# Altium footprint library PcbLib_Cute.PcbLib: 26 footprints (part 1 of 2)
Each footprint in its own frame and in the unit in brackets; x right, y up, seen from the top. Pads: shape width x height; smd on the part's side, far side on the other; paste and mask are expansions set on the pad; w line width, h text height; cw(c..) or ccw(c..) is an arc to the next point about the centre after c.
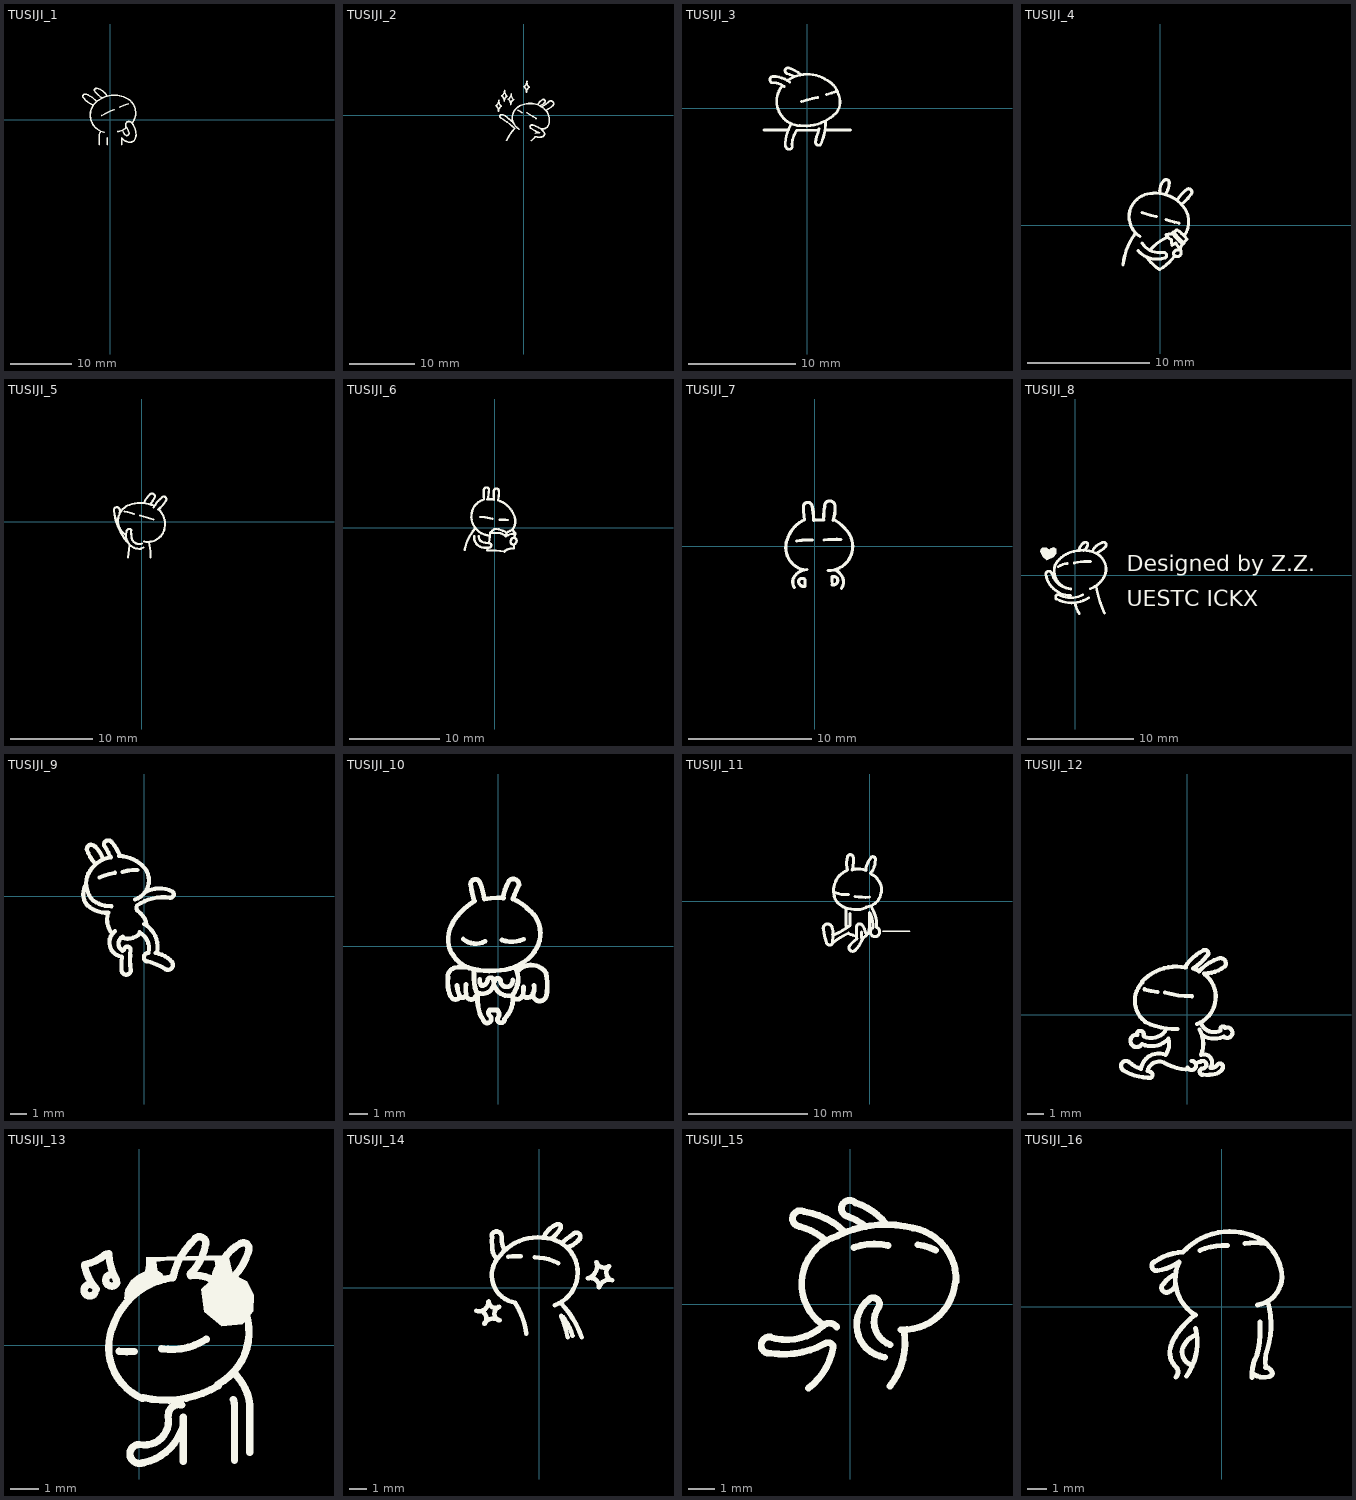
[diagram p0: the footprints below, top view; thin cyan lines are the x and y axes]

## TUSIJI_1 [mm] "TSJ"
Top Overlay:
  lines w0.254: -2.799,2.427 cw(c-1.397,5.867) -4.425,3.715 cw(c-4.064,3.835) -4.188,4.195 cw(c-4.064,3.327) -3.574,4.054 cw(c-5.588,0.025) -2.195,2.988 ; -2.159,5.105 ccw(c-2.286,4.851) -2.54,4.724 ccw(c1.651,7.899) -1.381,3.604 ; -2.149,5.149 cw(c-2.667,2.819) -0.543,3.907 ; -1.806,-4.011 -1.806,-2.642 cw(c-0.635,-2.642) -1.524,-1.88 ; -1.359,0.725 cw(c4.318,-8.611) 0.635,1.676 ; -1.013,-1.993 cw(c-0.381,0.787) -2.051,3.098 cw(c0.635,-0.356) 3.095,3.263 cw(c1.524,1.168) 3.556,-0.483 ; -0.508,-4.039 -0.508,-2.896 ; 1.27,-1.88 ccw(c1.016,0.406) 2.642,-1.22 ; 1.524,2.057 cw(c9.553,-15.913) 2.949,2.629 ; 1.905,-4.039 1.905,-2.896 ccw(c2.921,-2.388) 2.675,-3.496 ccw(c3.175,-2.515) 3.881,-3.361 ccw(c2.54,-2.388) 4.178,-2.136 ccw(c0.762,-2.515) 3.541,-0.493 ccw(c3.048,-0.864) 2.772,-0.312 ccw(c3.175,-0.864) 2.607,-1.243 ; 2.032,-1.753 ccw(c3.175,-1.499) 2.554,-2.492 ; 2.54,-2.515 ccw(c2.667,-2.134) 3.069,-2.134 ccw(c1.016,-2.515) 2.647,-1.212

## TUSIJI_2 [mm] "TSJ"
Top Overlay:
  lines w0.254: -3.825,2.286 cw(c-4.826,2.286) -4.271,1.453 cw(c-4.953,0.635) -3.888,0.635 cw(c-3.048,0.635) -3.449,1.372 cw(c-2.794,2.159) -3.81,2.286 ; -3.437,-0.5 -3.683,-0.254 -3.683,-0.086 -3.513,0.084 -3.179,0.084 cw(c-6.477,-5.588) -1.651,-1.143 ; -3.419,-0.5 cw(c-8.763,-9.652) -1.397,-2.032 ccw(c8.255,-9.906) -2.646,-3.878 ; -2.936,3.81 cw(c-3.937,3.81) -3.382,2.977 cw(c-4.064,2.159) -2.999,2.159 cw(c-2.159,2.159) -2.56,2.896 cw(c-1.905,3.683) -2.921,3.81 ; -1.92,3.302 cw(c-2.921,3.302) -2.366,2.469 cw(c-3.048,1.651) -1.983,1.651 cw(c-1.143,1.651) -1.544,2.388 cw(c-0.889,3.175) -1.905,3.302 ; -0.886,0.767 cw(c-5.334,-7.239) -0.254,0.381 ; -0.696,-2.146 cw(c0.254,-0.381) -1.09,1.106 cw(c0.762,-1.143) 0.387,1.746 cw(c1.016,-1.397) 3.596,0.504 ; 0.493,5.207 cw(c-0.508,5.207) 0.047,4.374 cw(c-0.635,3.556) 0.43,3.556 cw(c1.27,3.556) 0.869,4.293 cw(c1.524,5.08) 0.508,5.207 ; 0.497,0.361 cw(c-8.001,-14.986) 1.905,-0.508 ; 1.143,-3.937 ccw(c-1.016,-1.016) 1.795,-3.316 ccw(c2.413,-0.508) 2.662,-3.372 ccw(c2.667,-2.794) 3.234,-2.907 ; 1.397,-1.524 ccw(c1.27,-1.778) 1.143,-2.032 ccw(c3.175,0.508) 2.298,-2.624 ; 1.401,-1.51 cw(c0.508,-4.699) 2.286,-1.905 ; 1.778,-2.794 cw(c2.426,-4.737) 2.437,-2.689 ; 2.173,1.643 cw(c3.937,0.635) 2.928,2.399 cw(c3.048,2.159) 3.23,1.962 cw(c2.032,2.921) 2.667,1.524 ; 2.296,-1.889 cw(c0.635,-4.572) 3.105,-2.61 cw(c2.794,-2.921) 3.234,-2.921 ; 2.652,-2.098 ccw(c2.921,-1.143) 3.875,-1.415 ccw(c1.397,-0.762) 3.447,0.775 ccw(c2.159,3.81) 4.422,1.413 ccw(c4.191,1.778) 3.951,2.137 ; 2.921,1.397 ccw(c0.889,5.334) 3.954,2.135

## TUSIJI_3 [mm] "TSJ"
Top Overlay:
  lines w0.254: -4.039,-2.007 -1.829,-2.007 ; -3.28,2.38 cw(c-3.175,2.667) -3.2,2.972 ; -3.277,2.397 cw(c-3.226,0.66) -2.159,2.032 ; -3.2,2.977 cw(c-3.226,0.33) -1.626,2.438 ; -2.362,2.057 ccw(c-0.61,0.66) -2.194,-0.924 ; -2.184,-0.94 ccw(c-0.61,0.559) -0.739,-1.611 ; -2.058,-3.531 cw(c1.854,-3.48) -1.473,-1.422 ; -2.007,-3.556 ccw(c-1.702,-3.505) -1.406,-3.596 ; -1.915,3.255 cw(c-1.803,3.505) -1.702,3.759 ; -1.903,3.235 cw(c-2.718,0.102) -1.219,2.972 ; -1.746,2.671 cw(c0,-0.076) 1.626,2.743 ; -1.701,3.761 cw(c-2.896,0.254) -0.584,3.15 ; -1.41,-3.585 cw(c0.864,-3.378) -1.016,-2.083 ; -0.965,-2.032 1.016,-2.032 ; -0.711,-1.6 ccw(c-0.203,2.413) 2.657,-0.447 ; -0.55,0.634 cw(c2.972,-10.135) 0.965,1.016 ; 1.016,-2.235 ccw(c3.683,-3.48) 0.761,-3.124 ccw(c1.041,-3.15) 1.202,-3.379 ; 1.016,-2.21 ccw(c-1.448,-1.549) 1.081,-1.885 ; 1.194,-3.429 ccw(c-2.946,-1.321) 1.697,-1.169 ; 1.644,2.726 cw(c0.813,0.737) 2.896,1.295 ; 1.651,-2.007 4.013,-2.007 ; 1.783,1.282 cw(c5.258,-8.611) 2.769,1.575 ; 2.667,-0.457 ccw(c1.346,0.61) 2.899,1.297

## TUSIJI_4 [mm] "TSJ"
Top Overlay:
  lines w0.254: -3.028,-3.248 cw(c2.108,-3.759) -2.057,-0.711 ; -1.829,-2.057 ccw(c-0.279,-0.737) 0.326,-2.68 ; -1.662,-0.92 cw(c-0.635,0.686) -0.584,2.591 ; -1.499,1.041 ccw(c1.067,7.874) -0.33,0.711 ; -1.473,-1.473 ccw(c-0.051,-0.559) 0.178,-2.234 ; -1.081,-2.634 ccw(c1.702,-0.737) -0.054,-3.611 ; -0.829,-2.018 cw(c2.411,-4.926) 0.608,-0.964 ; -0.584,2.614 cw(c-0.432,-0.356) 2.007,1.346 ; -0.028,-3.596 ccw(c-1.694,-0.572) 1.143,-2.54 ; -0.019,2.617 cw(c1.168,2.819) 0.279,3.632 ; 0.205,-2.242 cw(c0.279,-2.464) 0.33,-2.692 ; 0.29,3.622 cw(c0.483,3.454) 0.738,3.454 ; 0.406,2.489 ccw(c-0.991,3.505) 0.736,3.455 ; 0.457,-0.762 ccw(c1.422,-0.229) 0.867,-1.181 ; 0.457,0.457 ccw(c2.997,7.442) 1.525,0.157 ; 0.489,-0.771 cw(c0.914,-3.023) 1.067,-0.737 ; 0.914,-1.194 ccw(c3.023,-1.194) 0.958,-1.622 ; 0.958,-1.642 cw(c1.676,-2.591) 1.285,-1.467 ; 1.041,-0.686 1.346,-0.381 ; 1.127,-2.172 cw(c1.448,-2.413) 1.676,-2.083 ; 1.143,-2.159 ccw(c1.321,-2.311) 1.297,-2.544 ; 1.295,-1.473 ccw(c3.404,-0.483) 1.635,-1.999 ; 1.321,-2.565 ccw(c1.372,-2.235) 1.67,-2.086 ; 1.362,-0.388 cw(c0.127,-2.489) 2.159,-1.143 ; 1.383,2.05 cw(c4.064,0.406) 2.21,2.946 ; 1.632,-1.951 cw(c4.521,-2.718) 1.803,-1.473 ; 1.702,1.702 ccw(c0.305,3.861) 2.494,2.512 ; 1.854,-1.473 2.159,-1.168 ; 2.002,1.353 cw(c0.33,0.279) 2.007,-0.787 ; 2.211,2.943 cw(c2.311,2.692) 2.515,2.515
  lines w0.381: 1.067,-0.635 ccw(c3.962,1.295) 1.854,-1.473

## TUSIJI_5 [mm] "TSJ"
Top Overlay:
  lines w0.254: -3.353,1.346 ccw(c3.835,2.134) -1.776,-2.427 ; -3.353,1.35 cw(c-2.997,1.397) -2.642,1.448 ; -2.692,1.016 ccw(c-3.327,1.295) -2.645,1.422 ; -2.079,1.237 cw(c-4.318,-9.093) -0.914,0.914 ; -2.016,-1.546 cw(c-0.813,0.102) -1.473,2.032 ; -1.829,-1.295 ccw(c-0.279,-1.702) -0.097,-3.293 ; -1.821,-1.26 cw(c-1.499,-1.219) -1.245,-1.016 ; -1.632,-4.368 cw(c9.957,-5.029) -1.448,-2.87 ; -1.475,2.038 cw(c-0.127,-1.854) 1.499,1.93 ; -1.245,-1.041 ccw(c1.194,-1.295) -1.219,-1.727 ccw(c-0.305,-1.803) 0.063,-2.644 ; -0.179,0.729 cw(c-2.235,-9.347) 1.448,0.254 ; -0.102,-3.251 ccw(c-0.432,-1.905) 0.227,-3.125 ; 0.328,2.293 cw(c2.845,1.321) 1.041,3.327 ; 0.33,-2.413 ccw(c0.787,-0.406) 2.842,-0.281 ; 0.887,-2.508 cw(c-5.41,-4.14) 1.092,-4.343 ; 1.016,2.083 ccw(c-1.092,4.089) 1.626,3.048 ccw(c1.27,3.048) 1.045,3.323 ; 1.456,1.722 cw(c5.537,-0.66) 2.515,2.972 ; 2.032,1.473 ccw(c-0.279,4.42) 2.945,2.515 ; 2.116,1.455 cw(c0.381,-0.33) 2.87,-0.305 ; 2.506,2.984 cw(c2.692,2.718) 2.946,2.515

## TUSIJI_6 [mm] "TSJ"
Top Overlay:
  lines w0.254: -3.331,-2.412 cw(c1.727,-3.404) -2.21,-0.076 ; -2.515,1.88 ccw(c-0.483,1.27) -0.612,-0.848 ; -2.513,1.896 cw(c-0.737,1.321) -1.219,3.124 ; -2.287,-0.894 ccw(c-1.144,-1.047) -1.448,-2.159 ; -1.778,-0.889 ccw(c-1.118,-0.965) -1.425,-1.555 ; -1.653,1.19 cw(c-1.524,-2.743) -0.279,0.991 ; -1.422,-2.159 ccw(c-0.94,-0.051) -0.659,-2.195 ; -1.422,-1.549 ccw(c-0.711,0.229) -0.66,-1.686 ; -1.219,4.216 ccw(c7.518,3.835) -1.199,3.124 ; -1.218,4.214 cw(c-0.94,4.191) -0.66,4.191 cw(c-3.801,4.166) -0.829,3.15 ; -0.839,-2.504 cw(c-0.432,-11.532) 1.041,-2.616 ; -0.838,-2.464 ccw(c-2.565,-2.032) -0.794,-2.209 ; -0.835,3.127 cw(c-0.381,0.051) -0.127,3.15 ; -0.66,-2.184 ccw(c-0.66,-1.93) -0.632,-1.678 ; -0.66,-1.651 ccw(c-6.96,-0.432) -0.544,-0.534 ; -0.533,-0.508 ccw(c-2.54,2.438) -0.07,-0.132 ; -0.508,-0.559 0.457,-0.559 ; -0.127,4.039 ccw(c7.061,3.708) -0.111,3.121 ; -0.127,4.086 cw(c0.152,4.064) 0.432,4.089 ; -0.025,-0.127 cw(c0,-2.311) 1.27,-0.533 ccw(c2.845,-0.813) 1.246,-0.864 ; 0.33,3.048 ccw(c-2.896,3.937) 0.447,4.09 ; 0.341,3.054 cw(c-0.584,0.279) 2.21,1.143 ; 0.461,-0.56 cw(c0.229,-1.905) 1.194,-0.94 ; 0.532,0.887 cw(c0.838,-4.42) 1.422,0.864 ; 1.05,-2.625 cw(c2.286,-3.912) 1.448,-2.337 ; 1.212,-0.914 cw(c2.108,-2.337) 2.235,-0.66 ccw(c5.004,-1.397) 2.158,-1.07 ; 1.326,-0.546 cw(c2.591,-2.108) 1.88,-0.229 ; 1.445,-2.351 cw(c2.159,-5.105) 2.083,-2.261 ; 1.753,-1.397 ccw(c2.057,-1.524) 2.057,-1.854 ; 1.77,-1.398 cw(c2.083,-1.422) 2.388,-1.346 ; 1.898,-0.211 cw(c0.508,-1.727) 2.235,-0.61 ; 1.93,-0.203 ccw(c0.737,0.737) 2.201,1.141 ; 2.083,-1.88 ccw(c1.905,-1.422) 2.389,-1.342 ; 2.099,-2.234 cw(c5.105,-2.134) 2.108,-1.88

## TUSIJI_7 [mm] "TSJ"
Top Overlay:
  lines w0.254: -2.236,0.559 ccw(c-0.483,-0.076) -0.923,-1.888 ; -2.216,0.547 cw(c0.127,-0.076) -0.813,2.159 ; -1.657,-3.331 cw(c-0.94,-2.896) -1.626,-2.413 ; -1.632,-2.408 cw(c-0.533,-3.277) -0.635,-1.88 ; -1.446,0.448 cw(c-0.356,-6.274) -0.178,0.533 ; -1.283,-2.977 cw(c-1.016,-2.87) -0.813,-2.667 ; -1.27,-2.972 ccw(c-0.889,-2.845) -0.81,-3.239 ; -0.914,3.175 ccw(c6.096,3.226) -0.83,2.139 ; -0.9,3.173 cw(c-0.559,3.226) -0.229,3.327 ; -0.797,-2.668 cw(c-5.156,-3.023) -0.787,-3.226 ; -0.22,3.311 cw(c-4.75,2.159) -0.076,2.159 ; -0.07,2.115 cw(c0.406,-1.092) 0.737,2.134 ; 0.727,2.134 cw(c7.747,2.184) 0.813,3.277 ; 0.76,0.523 cw(c1.626,-6.223) 2.134,0.559 ; 0.788,3.282 cw(c1.219,3.251) 1.648,3.201 ; 1.092,-1.956 ccw(c1.067,0.178) 2.227,-1.613 ; 1.421,-2.429 cw(c1.499,-2.845) 1.854,-2.616 ; 1.422,-3.099 ccw(c1.524,-2.769) 1.838,-2.624 ; 1.422,-2.438 ccw(c6.731,-2.692) 1.432,-3.096 ; 1.487,2.108 ccw(c-1.053,3.047) 1.651,3.2 ; 1.519,2.196 cw(c-0.203,-0.94) 2.438,1.473 ; 1.645,-1.865 cw(c0.813,-3.327) 2.134,-2.286 ; 2.114,-2.281 cw(c1.448,-2.87) 2.159,-3.404 ; 2.261,-1.6 ccw(c1.118,0) 2.442,1.454

## TUSIJI_8 [mm] "TSJ"
Top Overlay:
  region: -3.048,1.727 -3.251,2.184 -3.226,2.413 -3.073,2.565 -2.667,2.565 -2.438,2.362 -2.286,2.54 -2.007,2.616 -1.753,2.464 -1.778,1.981 -2.057,1.676 -2.667,1.397
  lines w0.254: -2.752,0.05 cw(c-2.464,0.076) -2.184,0.152 ; -2.743,0.051 ccw(c-0.432,0.432) -0.432,-1.911 ; -2.159,0.152 ccw(c-0.432,0.533) -0.954,-1.157 ; -1.88,0.94 ccw(c-0.254,0.406) -0.409,-1.297 ; -1.877,0.927 cw(c0.279,-0.203) -0.686,2.032 ; -1.738,-2.279 cw(c-1.575,-2.083) -1.549,-1.829 ccw(c-0.406,0.152) 0.728,-1.834 ; -1.702,-2.261 ccw(c-0.33,0.254) 1.276,-2.117 ; -1.59,0.785 cw(c-0.533,-0.813) -0.737,1.092 ; -0.707,2.029 cw(c0.686,-1.143) 1.651,2.184 ; -0.081,1.137 cw(c1.092,-3.48) 1.448,1.27 ; 0,-2.616 ccw(c2.21,-2.311) 0.398,-3.613 ; 0.353,2.363 cw(c1.575,2.032) 0.787,3.023 ; 0.787,2.311 ccw(c0.432,2.997) 1.17,2.768 ; 0.8,3.01 cw(c0.965,2.845) 1.194,2.794 ; 1.422,-1.27 ccw(c0.711,0.864) 2.917,0.423 ; 1.615,2.214 cw(c2.946,1.651) 2.489,3.023 ; 1.642,2.178 cw(c1.194,0.533) 2.896,0.432 ; 1.981,-1.092 ccw(c13.132,1.041) 2.749,-3.551 ; 2.007,2.057 ccw(c0.838,4.597) 2.853,2.659 ; 2.503,3.036 cw(c2.667,2.845) 2.845,2.667
  text "Designed by Z.Z." at 4.826,0.381 h1.52
  text "UESTC ICKX" at 4.826,-2.921 h1.52

## TUSIJI_9 [mm] "TSJ"
Top Overlay:
  lines w0.254: -3.632,0.635 ccw(c-2.616,0.152) -3.503,-0.54 ; -3.531,2.896 ccw(c-0.914,3.81) -3.011,1.998 ; -3.52,2.918 cw(c-3.251,2.896) -3.048,3.073 ; -3.48,-0.533 ccw(c-2.311,0.686) -2.208,-1 ; -3.429,1.397 ccw(c-2.083,0.787) -3.14,-0.245 ; -3.417,1.392 cw(c-1.803,0.635) -2.031,2.403 ; -3.124,-0.254 ccw(c-2.057,1.219) -2.005,-0.599 ; -3.036,3.086 cw(c-4.394,1.651) -2.515,2.261 ; -2.755,1.17 cw(c-1.016,-3.023) -1.803,1.448 ; -2.466,3.124 cw(c-2.21,3.175) -1.981,3.302 ; -2.464,3.118 cw(c-4.521,1.575) -2.108,2.464 ; -2.21,-0.991 ccw(c-0.965,-1.422) -1.948,-2.299 ; -1.979,3.304 cw(c-3.81,1.676) -1.499,2.489 ; -1.803,-2.134 ccw(c-1.27,-2.819) -1.4,-3.678 ; -1.55,2.481 cw(c-1.626,0.254) -0.102,1.88 ; -1.39,-4.523 cw(c1.905,-4.191) -1.372,-3.708 ; -1.387,-4.558 ccw(c-1.108,-4.508) -0.838,-4.597 ; -1.372,-2.54 ccw(c-1.041,-1.499) -0.244,-2.246 ; -1.342,1.508 cw(c-0.483,-1.549) -0.432,1.626 ; -1.332,-3.321 cw(c-1.092,-2.896) -1.321,-2.464 ; -1.246,-3.277 cw(c-1.041,-3.277) -0.838,-3.251 ccw(c4.623,-3.861) -0.826,-4.574 ; -0.564,-0.183 ccw(c-0.945,0.985) -0.076,1.854 ; -0.457,-0.559 ccw(c0,-0.686) -0.444,-0.852 ; -0.446,-0.549 cw(c1.168,-2.896) 1.575,-0.076 ccw(c1.6,0.127) 1.719,0.294 ; -0.427,-0.857 cw(c-1.727,-2.489) 0.051,-1.397 cw(c-0.402,-1.649) 0.106,-1.75 ; -0.298,-2.192 cw(c-0.838,-3.175) 0.254,-3.429 ; -0.002,-1.686 cw(c-0.813,-3.099) 0.787,-3.404 ; 0.063,0.278 cw(c0.924,-1.362) 1.711,0.315 ; 0.082,-3.954 cw(c0.254,-3.734) 0.254,-3.454 ; 0.14,-3.964 cw(c-0.787,-7.823) 1.295,-4.445 ; 0.687,-3.47 cw(c0.508,-5.004) 1.6,-3.912 ; 1.294,-4.454 ccw(c1.448,-4.191) 1.601,-3.928

## TUSIJI_10 [mm] "TSJ"
Top Overlay:
  lines w0.254: -2.709,-1.651 cw(c-2.21,-1.651) -2.337,-1.168 ; -2.697,-2.21 cw(c0.229,-1.956) -2.692,-1.651 ; -2.692,-2.21 ccw(c-0.66,-1.905) -2.556,-2.699 ; -2.54,-2.692 ccw(c-2.286,-2.591) -2.054,-2.736 ; -2.503,-0.375 cw(c-0.991,0.381) -2.413,1.295 ; -2.464,-0.406 ccw(c-1.041,0.356) -1.373,-1.224 ; -2.422,1.301 cw(c0.61,-0.686) -1.27,2.413 ; -2.339,-1.158 cw(c-1.93,-3.048) -1.6,-1.143 ; -2.21,-2.108 ccw(c-0.66,-2.007) -2.069,-2.659 ; -2.04,-2.714 ccw(c-1.913,-2.587) -1.753,-2.667 ; -1.88,0.381 ccw(c-1.194,1.194) -0.688,0.258 ; -1.727,-2.057 ccw(c-0.356,-2.286) -1.713,-2.588 ; -1.723,-2.624 ccw(c-1.454,-2.596) -1.194,-2.667 ; -1.481,3.327 cw(c-1.219,3.327) -0.991,3.454 ; -1.473,3.327 ccw(c1.956,3.632) -1.27,2.429 ; -1.372,-1.219 ccw(c-0.432,2.616) 0.13,-1.292 ; -1.27,-1.245 ccw(c1.448,-1.651) -1.179,-2.459 ; -1.168,-2.464 ccw(c-0.838,-1.956) -0.234,-1.905 ; -1.067,-2.54 ccw(c0.889,-2.921) -0.792,-3.991 ; -0.995,3.441 cw(c-4.115,2.057) -0.737,2.54 ; -0.991,-1.778 ccw(c-0.305,-1.829) -0.938,-2.097 ; -0.94,-2.108 ccw(c-0.864,-1.829) -0.575,-1.853 ; -0.787,-3.988 ccw(c-0.584,-3.912) -0.464,-3.731 ; -0.744,2.533 cw(c0.025,-1.854) 0.305,2.591 ; -0.562,-1.815 cw(c-0.406,-1.854) -0.246,-1.854 ; -0.498,-3.665 cw(c-0.381,-3.581) -0.483,-3.48 ; -0.483,-3.429 -0.025,-3.429 ; -0.203,-2.134 ccw(c0.584,-1.829) 0.77,-2.652 ; -0.196,-1.905 cw(c-0.025,-1.905) 0.127,-1.829 ; 0.004,-3.493 cw(c-0.254,-3.658) -0.051,-3.886 ccw(c0.152,-3.912) 0.355,-3.941 ; 0.127,-1.854 ccw(c0.457,-1.854) 0.784,-1.804 ; 0.127,-1.295 ccw(c-0.051,1.245) 1.958,-0.32 ; 0.203,0.33 ccw(c0.737,1.778) 1.377,0.374 ; 0.266,2.587 cw(c2.311,2.362) 0.584,3.48 ; 0.33,-3.912 ccw(c-0.711,-2.819) 0.796,-2.745 ; 0.583,3.503 cw(c0.813,3.302) 1.118,3.277 ccw(c4.597,1.321) 0.791,2.522 ; 0.787,-2.591 ccw(c-0.203,-1.778) 0.923,-1.166 ; 0.807,2.534 cw(c-0.356,-0.076) 1.727,1.88 ; 0.94,-2.845 ccw(c1.025,-2.56) 1.312,-2.638 ; 1.045,-1.353 cw(c1.778,-1.981) 2.565,-1.422 ; 1.321,-2.642 ccw(c1.575,-2.438) 1.897,-2.484 ; 1.346,-2.515 ccw(c0.279,-2.286) 1.366,-2.189 ; 1.746,1.875 cw(c0.66,0.686) 1.93,-0.305 ; 1.88,-2.515 ccw(c2.235,-2.591) 2.587,-2.685 ; 1.905,-2.489 ccw(c1.219,-2.261) 1.927,-2.114 ; 2.57,-1.447 cw(c-0.61,-2.134) 2.591,-2.718

## TUSIJI_11 [mm] "TSJ"
Top Overlay:
  lines w0.127: 1.092,-2.489 3.353,-2.489
  lines w0.254: -3.911,-2.349 cw(c-3.556,-2.261) -3.251,-2.057 ; -3.886,-2.337 ccw(c0.813,-1.981) -3.663,-3.456 ; -3.658,-3.454 ccw(c-3.378,-3.378) -3.147,-3.552 ; -3.239,-2.051 cw(c-4.267,-2.591) -3.124,-2.794 ; -3.164,-3.518 cw(c1.143,-8.89) -1.803,-2.667 ; -3.124,-3.48 -3.099,-2.794 ; -3.048,-2.819 ccw(c-5.512,3.048) -1.669,-2.024 ; -2.997,0.406 ccw(c-1.575,0.889) -1.83,-0.591 ; -2.989,0.409 cw(c-1.295,0.889) -2.87,1.676 ; -2.946,0.737 ccw(c-1.905,3.835) -1.803,0.568 ; -2.881,1.665 cw(c-1.372,1.067) -1.93,2.591 ; -2.007,-2.083 -2.007,-0.686 ; -1.897,3.745 cw(c-1.651,3.683) -1.397,3.683 ; -1.88,3.734 ccw(c-0.152,3.2) -1.875,2.651 ; -1.829,-0.584 ccw(c-1.143,1.575) -0.288,-0.523 ; -1.803,-2.692 ccw(c-0.686,-0.356) -1.194,-2.896 ; -1.702,-3.708 ccw(c-1.448,-3.886) -1.229,-4.105 ; -1.699,-3.716 cw(c0.813,-5.766) -1.067,-3.124 ; -1.676,-2.007 -1.676,-1.016 ; -1.503,2.66 cw(c-0.991,0.66) -0.33,2.616 ; -1.473,2.642 ccw(c-5.664,3.531) -1.383,3.684 ; -1.245,0.432 ccw(c-0.381,4.902) -0.051,0.361 ; -1.219,-4.089 ccw(c-2.946,-2.362) -0.634,-3.15 ; -1.118,-3.15 -1.118,-2.108 ; -1.111,-2.089 cw(c-0.864,-2.134) -0.686,-1.956 ; -0.711,-3.073 -0.711,-2.591 ; -0.678,-1.949 cw(c-1.753,-2.87) -0.356,-2.642 ; -0.635,-3.073 ccw(c-0.94,-2.235) -0.048,-2.21 ; -0.319,2.616 cw(c1.245,2.616) 0.102,3.683 ; -0.305,-0.483 ccw(c-0.483,0.965) 0.14,2.284 ; -0.051,-2.21 -0.051,-0.94 ; -0.03,-0.95 cw(c-2.007,-2.057) 0.254,-2.21 ccw(c0.432,-2.565) 0.571,-2.193 ; 0.051,2.337 ccw(c-1.219,3.429) 0.454,3.505 ; 0.093,3.69 cw(c0.254,3.556) 0.457,3.505 ; 0.106,-0.446 cw(c-2.235,-1.981) 0.559,-2.159

## TUSIJI_12 [mm] "TSJ"
Top Overlay:
  lines w0.254: -4.013,-3.429 ccw(c-2.388,-0.864) -2.463,-3.9 ; -4.001,-3.414 cw(c-3.81,-3.175) -3.607,-2.946 ccw(c-2.286,-1.473) -2.889,-3.358 ; -3.136,-1.25 cw(c-2.921,-1.219) -2.718,-1.295 ; -3.099,-1.245 ccw(c-3.15,-1.626) -2.822,-1.827 ; -2.875,-3.381 cw(c-1.778,-3.505) -1.346,-2.489 ccw(c-2.413,-1.778) -1.163,-1.492 ; -2.819,-1.829 ccw(c-2.235,-0.508) -1.189,-1.504 ; -2.809,2.046 cw(c-0.686,0.102) -0.102,2.921 ; -2.794,2.007 ccw(c-1.626,0.864) -2.606,-0.444 ; -2.692,-1.346 ccw(c-2.235,-0.381) -1.297,-0.891 ; -2.667,1.575 ccw(c-1.168,7.112) -1.849,1.416 ; -2.616,-0.457 ccw(c-0.787,3.251) -0.604,-0.88 ; -2.467,-3.495 cw(c-1.753,-3.632) -1.448,-2.972 ; -2.438,-3.912 ccw(c-2.362,-3.734) -2.33,-3.543 ; -1.422,-2.997 ccw(c0.178,-0.076) -0.101,-3.395 ; -1.397,1.372 ccw(c0.305,7.569) 0.279,1.142 ; -0.157,2.94 cw(c2.184,1.499) 1.016,3.988 ; 0,-3.277 ccw(c0.254,-3.15) 0.254,-2.866 ; 0.353,2.86 cw(c-0.025,1.473) 0.737,2.692 ; 0.356,2.87 ccw(c-1.092,5.283) 1.194,3.643 ; 0.559,-2.997 cw(c0.9,-3.655) 0.823,-2.918 ; 0.584,-0.584 ccw(c-0.025,1.092) 1.057,2.51 ; 0.714,2.687 cw(c2.819,0.787) 1.93,3.48 ; 0.742,-0.907 cw(c-0.813,-1.803) 0.848,-2.483 ; 0.81,-2.904 cw(c0.94,-3.099) 0.991,-3.327 ; 0.838,-0.533 ccw(c1.651,-0.203) 2.054,-0.982 ; 0.94,-3.732 cw(c0.965,-3.531) 0.965,-3.327 ; 0.962,-2.46 cw(c1.016,-2.972) 1.448,-3.251 ; 0.965,-3.708 ccw(c1.245,-1.956) 1.573,-3.7 ; 0.965,-1.295 ccw(c1.676,-0.051) 2.191,-1.389 ; 1.001,3.993 cw(c1.092,3.81) 1.194,3.632 ; 1.041,2.565 ccw(c1.118,4.42) 2.313,3 ; 1.422,-3.302 ccw(c1.473,-2.819) 1.873,-3.094 ; 1.575,-3.708 ccw(c1.499,-2.87) 2.166,-3.383 ; 1.866,-3.086 cw(c2.007,-3.226) 2.159,-3.353 ; 1.92,3.476 cw(c2.057,3.175) 2.337,2.997 ; 2.053,-0.924 cw(c2.21,-0.889) 2.362,-0.838 ; 2.261,-1.372 ccw(c2.464,-1.118) 2.343,-0.816

## TUSIJI_13 [mm] "TSJ"
Top Overlay:
  region: 2.146,1.943 2.692,2.438 2.616,2.946 0.864,2.921 0.584,2.896 0.622,2.603 0.775,2.502 0.826,2.4 -0.521,1.587 -0.495,1.918 -0.292,2.248 -0.051,2.438 0.203,2.565 0.229,2.794 0.229,3.048 3.086,3.111 3.238,2.451 3.721,2.222 3.975,1.74 3.95,1.181 3.569,0.724 2.857,0.648 2.248,1.156
  lines w0.254: -1.905,2.743 ccw(c-0.203,3.099) -1.493,1.933 ; -1.905,2.794 ccw(c-2.286,4.521) -1.163,3.154 ; -1.626,2.083 ccw(c-1.724,1.905) -1.543,1.814 ; -1.067,3.175 ccw(c0.914,3.251) -0.81,2.273 ; -0.965,0.559 ccw(c0.864,-0.076) 0.114,-1.861 ; -0.955,0.556 cw(c1.473,-0.178) 1.143,2.337 ; -0.951,2.452 ccw(c-0.969,2.25) -0.787,2.159 ; -0.712,-0.216 ccw(c-0.382,2.4) -0.178,-0.229 ; -0.025,-3.454 ccw(c0,-3.785) 0.119,-4.094 ; 0,-3.454 ccw(c0.178,-2.642) 0.993,-2.474 ; 0.127,-1.829 ccw(c0.914,1.626) 2.741,-1.41 ; 0.152,-4.089 ccw(c-0.254,-2.286) 1.502,-2.863 ; 0.762,-0.127 ccw(c1.118,2.032) 2.32,0.204 ; 1.002,-2.438 cw(c1.372,-2.438) 1.473,-2.083 ; 1.16,2.339 cw(c3.607,1.829) 1.93,3.683 ; 1.524,-4.039 1.524,-2.515 ; 1.753,2.464 ccw(c0.584,3.734) 2.295,3.507 ; 1.775,2.412 cw(c1.93,1.143) 2.584,2.241 ; 1.936,3.707 cw(c2.083,3.531) 2.311,3.505 ; 2.588,2.24 cw(c4.166,1.956) 2.946,2.997 ; 2.718,-1.372 ccw(c1.727,0.457) 3.068,2.047 ; 2.896,2.057 ccw(c1.727,3.861) 3.78,3.227 ; 2.947,3.006 cw(c4.267,2.159) 3.505,3.531 ; 3.263,-1.892 cw(c2.715,-2.101) 3.302,-2.101 3.302,-4.013 ; 3.341,-1.029 cw(c2.032,-2.286) 3.835,-2.083 ; 3.508,3.525 cw(c3.607,3.353) 3.793,3.283 ; 3.835,-3.734 3.835,-2.108

## TUSIJI_14 [mm] "TSJ"
Top Overlay:
  lines w0.254: -3.531,-1.295 ccw(c-3.378,-0.787) -2.848,-0.787 ; -3.234,-1.286 cw(c-3.454,-1.727) -3.048,-2.007 ; -3.09,-2.006 cw(c-2.565,-2.337) -2.21,-1.829 ; -2.819,-0.762 ccw(c-2.464,-0.762) -2.25,-1.046 ; -2.667,2.868 cw(c-2.388,2.896) -2.108,2.87 ; -2.642,2.87 ccw(c1.549,2.616) -2.619,2.111 ; -2.616,2.108 ccw(c-1.854,2.21) -2.384,1.653 ; -2.288,-1.807 cw(c-2.108,-1.448) -2.235,-1.067 ; -2.186,1.83 cw(c-0.076,0.152) 0.457,2.794 ; -2.184,1.829 ccw(c-1.092,0.711) -1.326,-0.834 ; -2.108,2.845 ccw(c-0.229,2.896) -1.954,2.149 ; -1.732,1.758 cw(c-1.295,-1.016) -1.016,1.778 ; -1.314,-0.891 cw(c-5.029,-3.175) -0.711,-2.565 ; -0.254,1.723 cw(c-0.279,-1.219) 1.067,1.397 ; 0.267,2.876 cw(c1.473,2.337) 0.965,3.556 ; 0.454,2.795 cw(c0.229,0.864) 0.889,-0.965 ; 0.711,2.794 ccw(c-0.279,4.191) 1.18,3.295 ; 0.977,3.564 cw(c1.067,3.429) 1.168,3.302 ; 1.228,-0.855 cw(c-2.413,-4.369) 2.388,-2.769 ; 1.254,-1.571 cw(c-4.242,-3.81) 1.6,-2.769 ; 1.313,-1.614 cw(c-0.737,-3.378) 1.88,-2.692 ; 1.326,2.56 cw(c3.531,0.305) 1.93,3.023 ; 1.575,2.286 ccw(c1.295,3.454) 2.271,2.754 ; 1.913,3.04 cw(c2.083,2.87) 2.286,2.743 ; 2.742,0.535 cw(c2.896,0.102) 3.353,0.051 ; 2.743,0.533 ccw(c2.515,1.245) 3.231,1.457 ; 3.226,1.448 ccw(c3.658,1.6) 3.928,1.231 ; 3.371,0.027 cw(c3.937,-0.127) 4.115,0.432 ; 3.937,1.219 ccw(c4.267,0.864) 3.967,0.482

## TUSIJI_15 [mm] "TSJ"
Top Overlay:
  lines w0.254: -3.023,-1.245 ccw(c-2.388,0.686) -1.03,-0.826 ; -3.017,-1.857 cw(c-3.048,-1.549) -2.997,-1.245 ; -2.997,-1.854 ccw(c-2.515,1.372) -0.956,-1.494 ; -1.986,2.949 cw(c-1.88,3.226) -1.727,3.48 cw(c-2.134,0.762) -0.203,2.718 ; -1.922,2.929 cw(c-2.464,0.711) -0.914,2.388 ; -1.575,-3.175 ccw(c-3.073,-1.219) -0.643,-1.624 ; -1.032,-0.823 cw(c-0.787,-1.067) -0.508,-0.864 ; -1.028,-0.779 cw(c0.051,0.762) -0.483,2.565 ; -0.946,-1.488 cw(c-0.838,-1.676) -0.635,-1.6 ; -0.486,2.573 cw(c1.346,-1.194) 2.362,2.87 cw(c2.032,0.94) 3.988,0.838 ; -0.124,3.313 cw(c-0.889,1.092) 0.584,2.921 ; -0.085,3.307 cw(c-0.025,3.607) 0.203,3.81 ; 0.142,2.135 cw(c0.914,-0.076) 1.422,2.21 ; 0.205,3.816 cw(c-0.533,1.524) 1.372,2.997 ; 0.711,0.178 ccw(c1.473,-0.787) 1.296,-2.004 ; 0.737,0.203 cw(c0.864,0) 1.067,-0.127 ccw(c1.829,-0.66) 1.502,-1.531 ; 1.499,-3.099 ccw(c-0.61,-1.448) 2.028,-0.987 ; 1.905,-0.965 ccw(c2.007,0.991) 3.959,0.84 ; 2.543,2.234 cw(c2.337,0.279) 3.226,2.032

## TUSIJI_16 [mm] "TSJ"
Top Overlay:
  lines w0.254: -3.531,2.362 ccw(c-3.404,2.134) -3.404,1.872 ; -3.513,2.338 cw(c-1.956,0.203) -2.032,2.845 ; -3.378,1.88 ccw(c-3.708,4.318) -2.252,2.335 ; -3.055,1.181 cw(c-1.854,0.356) -2.413,1.702 ; -3.048,1.194 ccw(c-2.896,0.991) -2.792,0.758 ; -2.794,0.762 ccw(c-3.023,1.397) -2.444,1.05 ; -2.618,-1.903 cw(c0.914,-3.632) -1.372,-0.432 ; -2.591,-1.905 ccw(c-1.676,-2.413) -2.465,-3.1 ; -2.452,-3.119 cw(c-2.667,-3.429) -2.413,-3.708 ; -2.235,2.337 ccw(c-0.254,1.422) -1.381,-0.446 ; -2.036,2.849 cw(c0.432,0.584) 2.159,3.454 ; -2.032,-2.159 cw(c-0.965,-2.565) -1.372,-1.499 ; -2.032,-2.134 ccw(c-1.372,-2.388) -1.549,-3.073 ; -1.854,-3.658 ccw(c-4.318,-1.88) -1.367,-1.155 ; -1.139,2.945 cw(c0.127,0) 0.305,3.2 ; 1.211,3.299 cw(c1.753,0.152) 2.286,3.301 ; 1.595,-3.734 cw(c3.658,-3.556) 1.854,-2.54 ccw(c-3.861,-1.168) 2.005,-0.808 ; 1.626,-3.505 ccw(c2.21,-2.794) 2.439,-3.685 ; 1.87,0.08 ccw(c1.641,1.579) 3.15,1.727 ccw(c0.508,1.372) 2.148,3.473 ; 2.286,-3.192 cw(c2.286,-3.556) 2.65,-3.556 ; 2.307,-3.121 cw(c4.14,-2.845) 2.311,-2.54 ; 2.311,-2.515 ccw(c-1.93,-0.965) 2.443,0.16 ; 2.438,-3.683 ccw(c2.438,-3.454) 2.66,-3.51